# Altium schematic symbol library PBL - Regulators.SCHLIB: 21 symbols
Pins are listed as number, name and electrical type; pins without a type are passive.

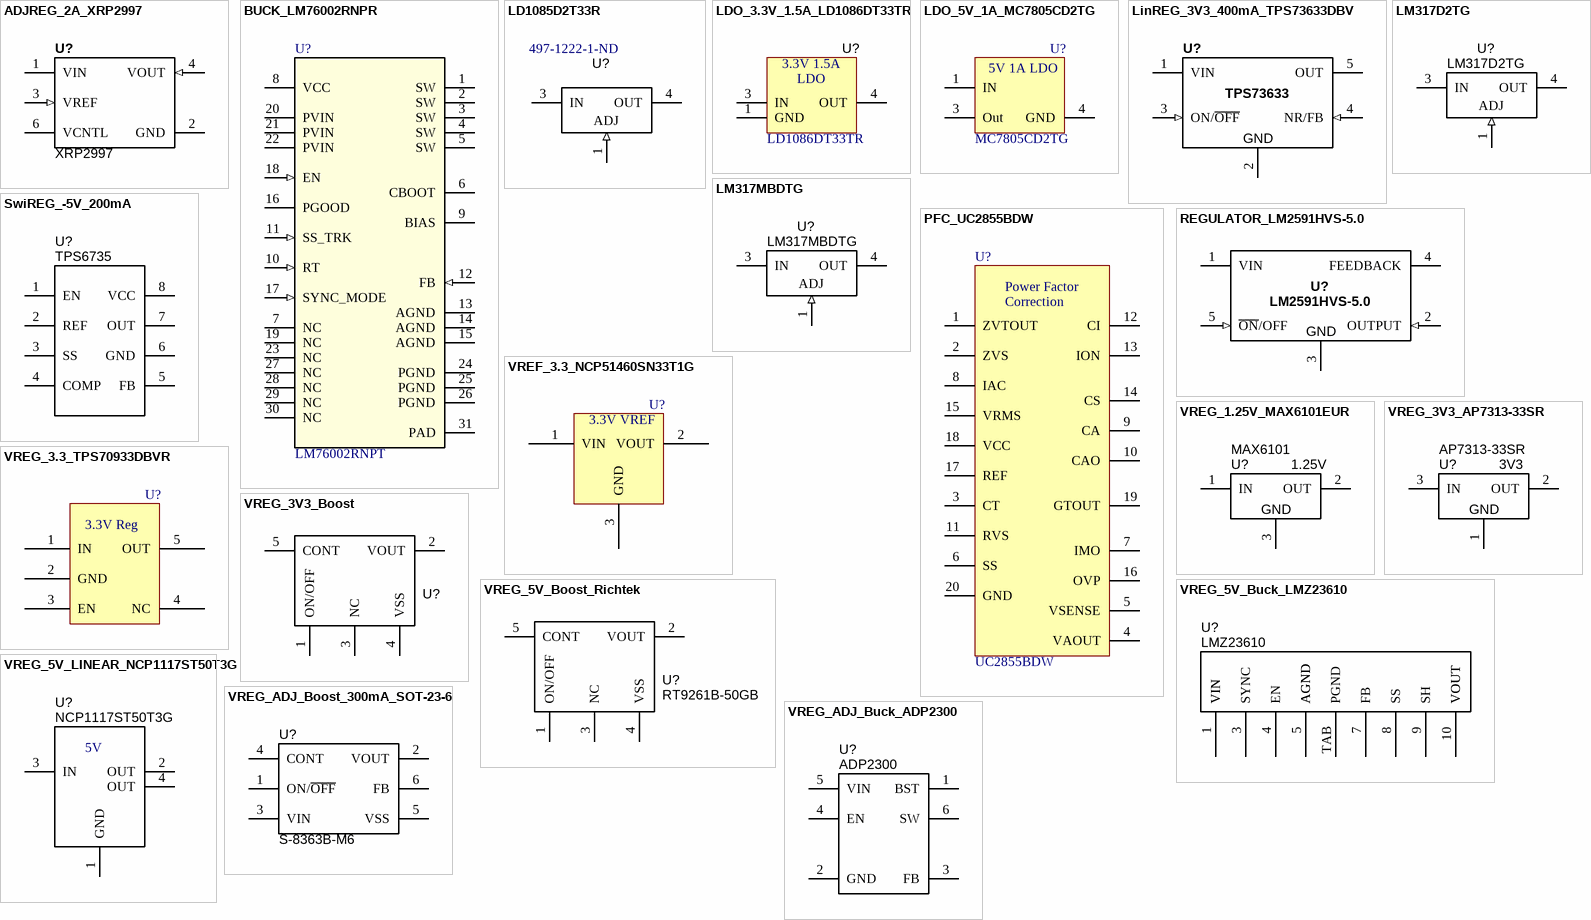
[diagram p0: symbols ADJREG_2A_XRP2997 to VREG_ADJ_Buck_ADP2300]

## ADJREG_2A_XRP2997
designator U?, comment XRP2997
IC Adjustable Regulator 2A 8-SOIC-EP SMD; Manufacturer 1: Exar Corporation; Manufacturer Part Number 1: XRP2997IDBTR-F; Voltage Regulator Type: Switching Buck; Tolerance: ±20mV; Ratings: 5.5Vin Max; Value: 3.3V; 400mA; Voltage - Input: 1.1V to 5.5V; Voltage - Dropout (Typical): 0.075V @ 400mA; Current - Output: 2A (Max); SCDType: spec; Package / Case: 8-SOIC (0.154", 3.90mm Width) Exposed Pad; Voltage - Output: Adjustable; Supplier 1: Digi-Key; Supplier Part Number 1: 1016-1702-1-ND; Operating Temperature: -40°C ~ 85°C
footprint SOIC127P600X175-9N (SOIC, 8-Leads with thermal tab, Body 4.9x3.9mm, Pitch 1.27mm, IPC Medium Density)
pins: 1 VIN (power), 2 GND (power), 3 VREF (in), 4 VOUT (in), 6 VCNTL (power), 9 GND (power) hidden to GND

## BUCK_LM76002RNPR
designator U?  Manufacturer Part Number: LM76002RNPT  (hidden comment: BUCK_LM76002RNPR)
Buck Switching Regulator IC Positive Adjustable 1V 1 Output 2.5A 30-WFQFN Exposed Pad; Manufacturer: Texas Instruments; Supplier 1: Digi-Key; Supplier Part Number 1: 296-47535-1-ND; Stock 1: 32; Pricing 1: 1=6.2, 10=5.603, 100=4.6385 (USD)
footprint RNP0030B
pins: 1 SW (power), 2 SW (power), 3 SW (power), 4 SW (power), 5 SW (power), 6 CBOOT (power), 7 NC, 8 VCC (power), 9 BIAS, 10 RT (in), 11 SS_TRK (in), 12 FB (in), 13 AGND (power), 14 AGND (power), 15 AGND (power), 16 PGOOD (oc), 17 SYNC_MODE (in), 18 EN (in), 19 NC, 20 PVIN (power), 21 PVIN (power), 22 PVIN (power), 23 NC, 24 PGND (power), 25 PGND (power), 26 PGND (power), 27 NC, 28 NC, 29 NC, 30 NC, 31 PAD (power)

## LD1085D2T33R
designator U?  Supplier Part Number 1: 497-1222-1-ND  (hidden comment: LD1085D2T33R)
Voltage Regulator IC, IC REG LDO 3.3V 3A D2PAK; Voltage Regulator Type: Adjustable Positive Linear; Tolerance: 0.04%; Ratings: 40V; 1.5A; Value: variable; SCDType: spec*; Package / Case: D2PAK; Supplier 1: Digi-Key
footprint D2PAK-3 (D-PAK/TO-263-3; 3 Leads (1 Cropped); Body 14.7 (inc. leads) x 10.2 mm (LxW max))
pins: 1 ADJ (in), 3 IN (power), 4 OUT (power)

## LDO_3.3V_1.5A_LD1086DT33TR
designator U?, comment LD1086DT33TR
Linear Voltage Regulator IC Positive Fixed Output 3.3V 1.5A D-Pak; Manufacturer: STMicroelectronics; Voltage - Dropout (Typical): 1.3V @ 1.5A; Voltage - Input: Up to 30V; Supplier 1: Digi-Key; RoHS: RoHS Compliant; Category: Integrated Circuits (ICs); Stock 1: 2273; Pricing 1: 1=0.98, 10=0.875, 100=0.6823, 500=0.56362, 1000=0.44496 (USD); Packaging: Cut Tape (CT); Part Status: Active; Regulator Topology: Positive Fixed; Voltage - Output: 3.3V; Current - Output: 1.5A; Current - Limit (Min): -; Operating Temperature: -40°C ~ 125°C; Mounting Type: Surface Mount; Package / Case: TO-252-3, DPak (2 Leads + Tab), SC-63; Supplier Device Package: D-Pak; ComponentLink1URL: http://www.st.com/content/ccc/resource/technical/document/datasheet/53/db/00/58/09/98/4b/36/CD00001884.pdf/files/CD00001884.pdf/jcr:content/translations/en.CD00001884.pdf; ComponentLink1Description: http://www.st.com/content/ccc/resource/technical/document/datasheet/53/db/00/58/09/98/4b/36/CD00001884.pdf/files/CD00001884.pdf/jcr:content/translations/en.CD00001884.pdf; Supplier Part Number 1: 497-3446-1-ND; Manufacturer Part Number: LD1086DT33TR
footprint DPAK228P972X238-3N (D-PAK, 3-Pads, Body 6.20x6.66mm (max), IPC Medium Density)
pins: 1 GND, 3 IN (power), 4 OUT (power)
text: 3.3V 1.5A; LDO

## LDO_5V_1A_MC7805CD2TG
designator U?, comment MC7805CD2TG
Linear Voltage Regulator IC Positive Fixed 1 Output 5V 1A D2PAK; Manufacturer: ON Semiconductor; Input Voltage Min: 10V; Input Voltage Max: 35V; Linear Regulator Case Style: TO-263; No. of Pins: 3Pins; Product Range: 7805 Voltage Regulators; Supplier 1: Digi-Key; Stock 1: 4489; Pricing 1: 1=0.63, 10=0.55, 100=0.422, 500=0.3336, 1000=0.2669 (USD); Output Type: Fixed; Fixed Output Voltage Nom.: 5V; Adjustable Output Voltage Min: -; Adjustable Output Voltage Max: -; Output Current: 1A; Operating Temperature Min: 0°C; Operating Temperature Max: 125°C; Packaging: Each; Automotive Qualification Standard: -; ComponentLink1URL: https://datasheet.ciiva.com/3224/mc7800-d-3224037.pdf; ComponentLink1Description: https://datasheet.ciiva.com/3224/mc7800-d-3224037.pdf; ComponentLink2URL: https://datasheet.ciiva.com/19456/797283-19456392.pdf; ComponentLink2Description: https://datasheet.ciiva.com/19456/797283-19456392.pdf; ComponentLink3URL: https://datasheet.ciiva.com/16382/mc7800-d-16382713.pdf; ComponentLink3Description: https://datasheet.ciiva.com/16382/mc7800-d-16382713.pdf; ComponentLink4URL: https://datasheet.ciiva.com/18435/70099956-18435881.pdf; ComponentLink4Description: https://datasheet.ciiva.com/18435/70099956-18435881.pdf; ComponentLink5URL: https://datasheet.ciiva.com/25979/mc7800-d-25979755.pdf; ComponentLink5Description: https://datasheet.ciiva.com/25979/mc7800-d-25979755.pdf; ComponentLink6URL: https://datasheet.ciiva.com/1512/mc7800-d-1512156.pdf; ComponentLink6Description: https://datasheet.ciiva.com/1512/mc7800-d-1512156.pdf; ComponentLink7URL: https://datasheet.ciiva.com/14149/bxonsemico-spanregler-positiv-mc78-en-14149788.pdf; ComponentLink7Description: https://datasheet.ciiva.com/14149/bxonsemico-spanregler-positiv-mc78-en-14149788.pdf; ComponentLink8URL: https://datasheet.ciiva.com/2044/mc7800-d-2044415.pdf; ComponentLink8Description: https://datasheet.ciiva.com/2044/mc7800-d-2044415.pdf; ComponentLink9URL: https://datasheet.ciiva.com/26903/mc7805cd2tg-26903007.pdf; ComponentLink9Description: https://datasheet.ciiva.com/26903/mc7805cd2tg-26903007.pdf; Supplier Part Number 1: MC7805CD2TGOS-ND; Manufacturer Part Number: MC7805CD2TG
footprint D2PAK-3 (D-PAK/TO-263-3; 3 Leads (1 Cropped); Body 14.7 (inc. leads) x 10.2 mm (LxW max))
pins: 1 IN, 3 Out, 4 GND
text: 5V 1A LDO

## LinREG_3V3_400mA_TPS73633DBV
designator U?, comment 3.3V  (value not drawn)
IC LDO Regulator 3.3V 400mA SOT23-5 SMD; Manufacturer 1: Texas Instruments; Manufacturer Part Number 1: TPS73633DBVT; Voltage Regulator Type: Switching Buck; Tolerance: ±0.5%; Ratings: 5.5Vin Max; Value: 3.3V; 400mA; Regulator Topology: Positive Fixed; Voltage - Input: 3.5V to 5.5V; Voltage - Dropout (Typical): 0.075V @ 400mA; Current - Output: 400mA (Max); SCDType: spec; Package / Case: SOT23-5; Supplier 1: Digi-Key; Supplier Part Number 1: 296-15819-1-ND; Voltage - Output: 3.3V; Current - Limit (Min): 400mA; ComponentLink1URL: http://www.ti.com/lit/ds/symlink/tps73601.pdf; ComponentLink1Description: http://www.ti.com/lit/ds/symlink/tps73601.pdf
footprint SOT23-5
pins: 1 VIN (power), 2 GND (power), 3 ON/~{OFF} (in), 4 NR/FB (in), 5 OUT (power)
text: TPS73633

## LM317D2TG
designator U?, comment Manufacturer Part Number 1: LM317D2TG  (hidden comment: Adjustable)
Voltage Regulator IC, D2PAK SMD, LM317D2TG; Manufacturer 1: ON Semiconductor; Voltage Regulator Type: Adjustable Positive Linear; Tolerance: 0.04%; Ratings: 40V; 1.5A; Value: variable; SCDType: spec*; Package / Case: D2PAK; Supplier 1: Digi-Key; Supplier Part Number 1: LM317D2TGOS-ND
footprint D2PAK-3 (D-PAK/TO-263-3; 3 Leads (1 Cropped); Body 14.7 (inc. leads) x 10.2 mm (LxW max))
pins: 1 ADJ (in), 3 IN (power), 4 OUT (power)

## LM317MBDTG
designator U?, comment Manufacturer Part Number 1: LM317MBDTG  (hidden comment: Adjustable)
Voltage Regulator IC, DPAK SMD, LM317MBDTG; Manufacturer 1: ON Semiconductor; Voltage Regulator Type: Adjustable Positive Linear; Tolerance: 0.04%; Ratings: 40V in-out; 500mA; Value: variable; SCDType: spec\; Package / Case: DPAK/TO-252; Supplier 1: Digi-Key; Supplier Part Number 1: LM317MBDTGOS-ND
footprint TO-252 (D-PAK/TO-252-AA; 3 Leads (1 Cropped); Body 10.3 (inc. leads) x 6.7 mm (LxW max))
pins: 1 ADJ (in), 3 IN (power), 4 OUT (power)

## PFC_UC2855BDW
designator U?, comment Manufacturer Part Number: UC2855BDW  (hidden comment: UC2855ADW)
PFC IC Average Current 500kHz 20-SOIC; Manufacturer: Texas Instruments; Voltage - Supply: 10.5 V ~ 20 V; Supplier 1: Digi-Key; Supplier Part Number 1: 296-2498-5-ND; RoHS: RoHS Compliant; Category: Integrated Circuits (ICs); Stock 1: 77; Pricing 1: 1=15.12, 10=13.896, 100=11.736, 500=10.44, 1000=9.576 (USD); Packaging: Tube; Part Status: Active; Mode: Average Current; Frequency - Switching: 500kHz; Operating Temperature: -40°C ~ 85°C; Mounting Type: Surface Mount; Package / Case: 20-SOIC (0.295", 7.50mm Width); Supplier Device Package: 20-SOIC; ComponentLink1URL: http://www.ti.com/lit/ds/symlink/uc3855a.pdf; ComponentLink1Description: http://www.ti.com/lit/ds/symlink/uc3855a.pdf
footprint SOIC127P1030X265-20N (SOIC, 20-Leads, Body 12.80x7.50mm, Pitch 1.27mm, IPC Medium Density)
pins: 1 ZVTOUT, 2 ZVS, 3 CT, 4 VAOUT, 5 VSENSE, 6 SS, 7 IMO, 8 IAC, 9 CA, 10 CAO, 11 RVS, 12 CI, 13 ION, 14 CS, 15 VRMS, 16 OVP, 17 REF, 18 VCC, 19 GTOUT, 20 GND
text: Power Factor; Correction

## REGULATOR_LM2591HVS-5.0
designator U?, comment Manufacturer Part Number 1: LM2591HVS-5.0  (hidden comment: Adjustable)
Switching Voltage Regulator IC, TO-263-5 SMD, LM2591HVS-5.0; Manufacturer 1: National Semiconductor; Voltage Regulator Type: Switching Buck; Tolerance: ±4%; Ratings: 60Vin Max; 150kHz; Value: 5V; 1A; SCDType: source; Package / Case: TO-263-5; Supplier 1: Digi-Key; Supplier Part Number 1: LM2591HVS-5.0-ND
footprint TO-263-5 (D-PAK/TO-263-5; 5 Leads; Body 14.4 (inc. leads) x 10.4 mm (LxW max))
pins: 1 VIN (power), 2 OUTPUT (in), 3 GND (power), 4 FEEDBACK (power), 5 ~{ON}/OFF (in)

## SwiREG_-5V_200mA
designator U?, comment TPS6735
IC REG 200mA -5V SOIC-8 SMD; Manufacturer 1: Texas Instruments; Manufacturer Part Number 1: TPS6735ID; Ratings: -5V @ 200mA; Output Type: Fixed; Voltage - Input: 4 V ~ 6.2 V; PWM Type: Current Mode; Frequency - Switching: 160kHz; Synchronous Rectifier: No; SCDType: spec; Supplier 1: Digi-Key; Supplier Part Number 1: 296-10982-5-ND; Type: Inverting; Voltage - Output: -5V; Operating Temperature: -40°C ~ 85°C; Supplier Device Package: 8-SOIC; ComponentLink1URL: http://www.ti.com/lit/ds/slvs141a/slvs141a.pdf; ComponentLink1Description: http://www.ti.com/lit/ds/slvs141a/slvs141a.pdf; Package / Case: 8-SOIC (0.154", 3.90mm Width)
footprint SOIC127P600X175-8AN (SOIC, 8-Leads, Body 4.9x3.9mm, Pitch 1.27mm, IPC Medium Density)
pins: 1 EN, 2 REF, 3 SS, 4 COMP, 5 FB, 6 GND, 7 OUT, 8 VCC

## VREF_3.3_NCP51460SN33T1G
designator U?, comment NCP51460SN33T1G  (value not drawn)
Series Voltage Reference IC ±1% 20mA TO-236-3, SC-59, SOT-23-3; Supplier 1: Digi-Key; Supplier Part Number 1: NCP51460SN33T1GOSCT-ND; Supplier 2: Arrow; Supplier Part Number 2: yIlg-D1IrTMVGcg_d921GrPIyEsMg7Ox3S184fQ-8R0
footprint SOT23-3 (SOT23, 3 pin)
pins: 1 VIN, 2 VOUT, 3 GND
text: 3.3V VREF

## VREG_1.25V_MAX6101EUR
designator U?, comment MAX6101  value 1.25V
Voltage Regulator 1.25V SOT23-3 SMD; Manufacturer 1: Maxim Integrated Products; Manufacturer Part Number 1: MAX6101EUR+T; Voltage Regulator Type: Adjustable Positive Linear; Tolerance: ±0.04%; Ratings: 40V in-out; 500mA; SCDType: spec; Package / Case: SOT23-3; Supplier 1: Digi-Key; Supplier Part Number 1: MAX6101EUR+TCT-ND
footprint SOT23-3 (SOT23, 3 pin)
pins: 1 IN (power), 2 OUT (power), 3 GND (power)

## VREG_3.3_TPS70933DBVR
designator U?, comment TPS70933DBVR  (value not drawn)
Linear Low IQ Voltage Regulator IC Positive Fixed 1 Output 3.3V 150mA SOT-23-5; Supplier 1: Digi-Key; Supplier Part Number 1: 296-35483-1-ND
footprint SOT23-5
pins: 1 IN, 2 GND, 3 EN, 4 NC, 5 OUT
text: 3.3V Reg

## VREG_3V3_AP7313-33SR
designator U?, comment AP7313-33SR  value 3V3
Voltage Regulator 3.3V LDO SOT23R-3 SMD; Manufacturer 1: Diodes Inc; Manufacturer Part Number 1: AP7313-33SRG-7; Voltage Regulator Type: Low Drop-Out (LDO); Tolerance: ±2%; Ratings: 6Vin; 150mA; SCDType: source; Package / Case: SOT23R-3; Supplier 1: Digi-Key; Supplier Part Number 1: AP7313-33SRG-7DICT-ND; ComponentLink1URL: http://www.diodes.com/datasheets/AP7313.pdf; ComponentLink1Description: AP7313 datasheet
footprint SOT23-3 (SOT23, 3 pin)
pins: 1 GND (power), 2 OUT (power), 3 IN (power)

## VREG_3V3_Boost
designator U?  (value not drawn)
Regulator 3.3V Step-Up Converter; Manufacturer 1: Richtek USA Inc; Manufacturer Part Number 1: RT9261B-33GB; Ratings: 3.3V; 50mA; Output Type: Fixed; Voltage - Input: Up to 7V; PWM Type: VFM; Frequency - Switching: 190kHz; Current - Output: 50mA; Synchronous Rectifier: No; SCDType: undef; Package / Case: SOT-23-5; Type: Step-Up (Boost); Voltage - Output: 3.3V; Operating Temperature: -20°C ~ 85°C; ComponentLink1URL: http://www.richtek.com/download_ds.jsp?s=267; ComponentLink1Description: RT9261B-33GB Datasheet; Supplier Part Number 1: RT9261B-33GB-ND; Supplier 1: Digi-Key
footprint SOT23-5
pins: 1 ON/OFF, 2 VOUT, 3 NC, 4 VSS, 5 CONT

## VREG_5V_Boost_Richtek
designator U?  Manufacturer Part Number 1: RT9261B-50GB  (hidden comment: *)
Regulator VFM 5.0V Step-Up DC-DC Converter; Manufacturer 1: Richtek USA Inc; Ratings: 5V; 160mA; SCDType: source; Package / Case: SOT-23-5; Material: Si; Supplier 1: Digi-Key; Supplier Part Number 1: RT9261B-50GB-ND; ComponentLink1URL: http://www.richtek.com/download_ds.jsp?s=267; ComponentLink1Description: http://www.richtek.com/download_ds.jsp?s=267
footprint SOT23-5
pins: 1 ON/OFF, 2 VOUT, 3 NC, 4 VSS, 5 CONT

## VREG_5V_Buck_LMZ23610
designator U?, comment LMZ23610
Voltage Regulator 10A 5V TO-PMOD-11; Manufacturer 1: National Semiconductor (TI); Manufacturer Part Number 1: LMZ23610TZ/NOPB; Ratings: 6Vin; 50W; Tolerance: ±0.2%; Value: Variable; SCDType: undef; Supplier 1: Digi-Key; Supplier Part Number 1: LMZ23610TZ/NOPB-ND; ComponentLink1URL: http://www.ti.com/lit/ds/symlink/lmz23610.pdf; ComponentLink1Description: http://www.ti.com/lit/ds/symlink/lmz23610.pdf
footprint NATIONALSEMI-TZA11A (National Semi TZA11A package)
pins: 1 VIN, 2 VIN, 3 SYNC, 4 EN, 5 AGND, 6 AGND, 7 FB, 8 SS, 9 SH, 10 VOUT, 11 VOUT, TAB PGND

## VREG_5V_LINEAR_NCP1117ST50T3G
designator U?, comment NCP1117ST50T3G
Linear Voltage Regulator IC Positive Fixed 1 Output 5V 1A SOT-223; Manufacturer: ON Semiconductor; Voltage - Dropout (Typical): 1.07V @ 800mA; Number of Regulators: 1; Voltage - Input: Up to 20V; Supplier 1: Digi-Key; Supplier Part Number 1: NCP1117ST50T3GOSCT-ND; Manufacturer Part Number: NCP1117ST50T3G; Packaging: Cut Tape (CT); Part Status: Active; Regulator Topology: Positive Fixed; Voltage - Output: 5V; Current - Output: 1A; Current - Limit (Min): 1A; Operating Temperature: 0°C ~ 125°C; Mounting Type: Surface Mount; Package / Case: TO-261-4, TO-261AA; Supplier Device Package: SOT-223; ComponentLink1URL: http://www.onsemi.com/pub_link/Collateral/NCP1117-D.PDF; ComponentLink1Description: http://www.onsemi.com/pub_link/Collateral/NCP1117-D.PDF; RoHS: RoHS Compliant; Category: Integrated Circuits (ICs); Stock 1: 65449; Pricing 1: 1=0.46, 10=0.391, 100=0.2919, 500=0.22932, 1000=0.17721 (USD)
footprint SOT223
pins: 1 GND, 2 OUT, 3 IN, 4 OUT

## VREG_ADJ_Boost_300mA_SOT-23-6
designator U?  Manufacturer Part Number 1: S-8363B-M6  (hidden comment: *)
Regulator adjustable switching step-up DC-DC converter; Manufacturer 1: Seiko Instruments Inc.; Ratings: 5V; 300mA; 1.2MHz; SCDType: source; Package / Case: SOT-23-6; Supplier 1: Mouser; Supplier Part Number 1: 628-S-8363B-M6T1U2; ComponentLink1URL: http://datasheet.sii-ic.com/en/switching_regulator/S8363_E.pdf; ComponentLink1Description: http://datasheet.sii-ic.com/en/switching_regulator/S8363_E.pdf
footprint SOT23-6
pins: 1 ON/~{OFF}, 2 VOUT, 3 VIN (power), 4 CONT, 5 VSS (power), 6 FB (power)

## VREG_ADJ_Buck_ADP2300
designator U?, comment ADP2300
Regulator adjustable switching step-down DC/DC converter; Manufacturer 1: Analog Devices Inc; Manufacturer Part Number 1: ADP2300AUJZ-R7; Ratings: Adj; 1.2A; SCDType: undef; Package / Case: SOT-23-6; Supplier 1: Digi-Key; Supplier Part Number 1: ADP2300AUJZ-R7CT-ND; ComponentLink1URL: http://www.analog.com/static/imported-files/data_sheets/ADP2300_2301.pdf; ComponentLink1Description: http://www.analog.com/static/imported-files/data_sheets/ADP2300_2301.pdf
footprint SOT23-6
pins: 1 BST, 2 GND, 3 FB, 4 EN, 5 VIN, 6 SW